# EAGLE library part STM32F756NGH6 (library circuit_tree)
IC
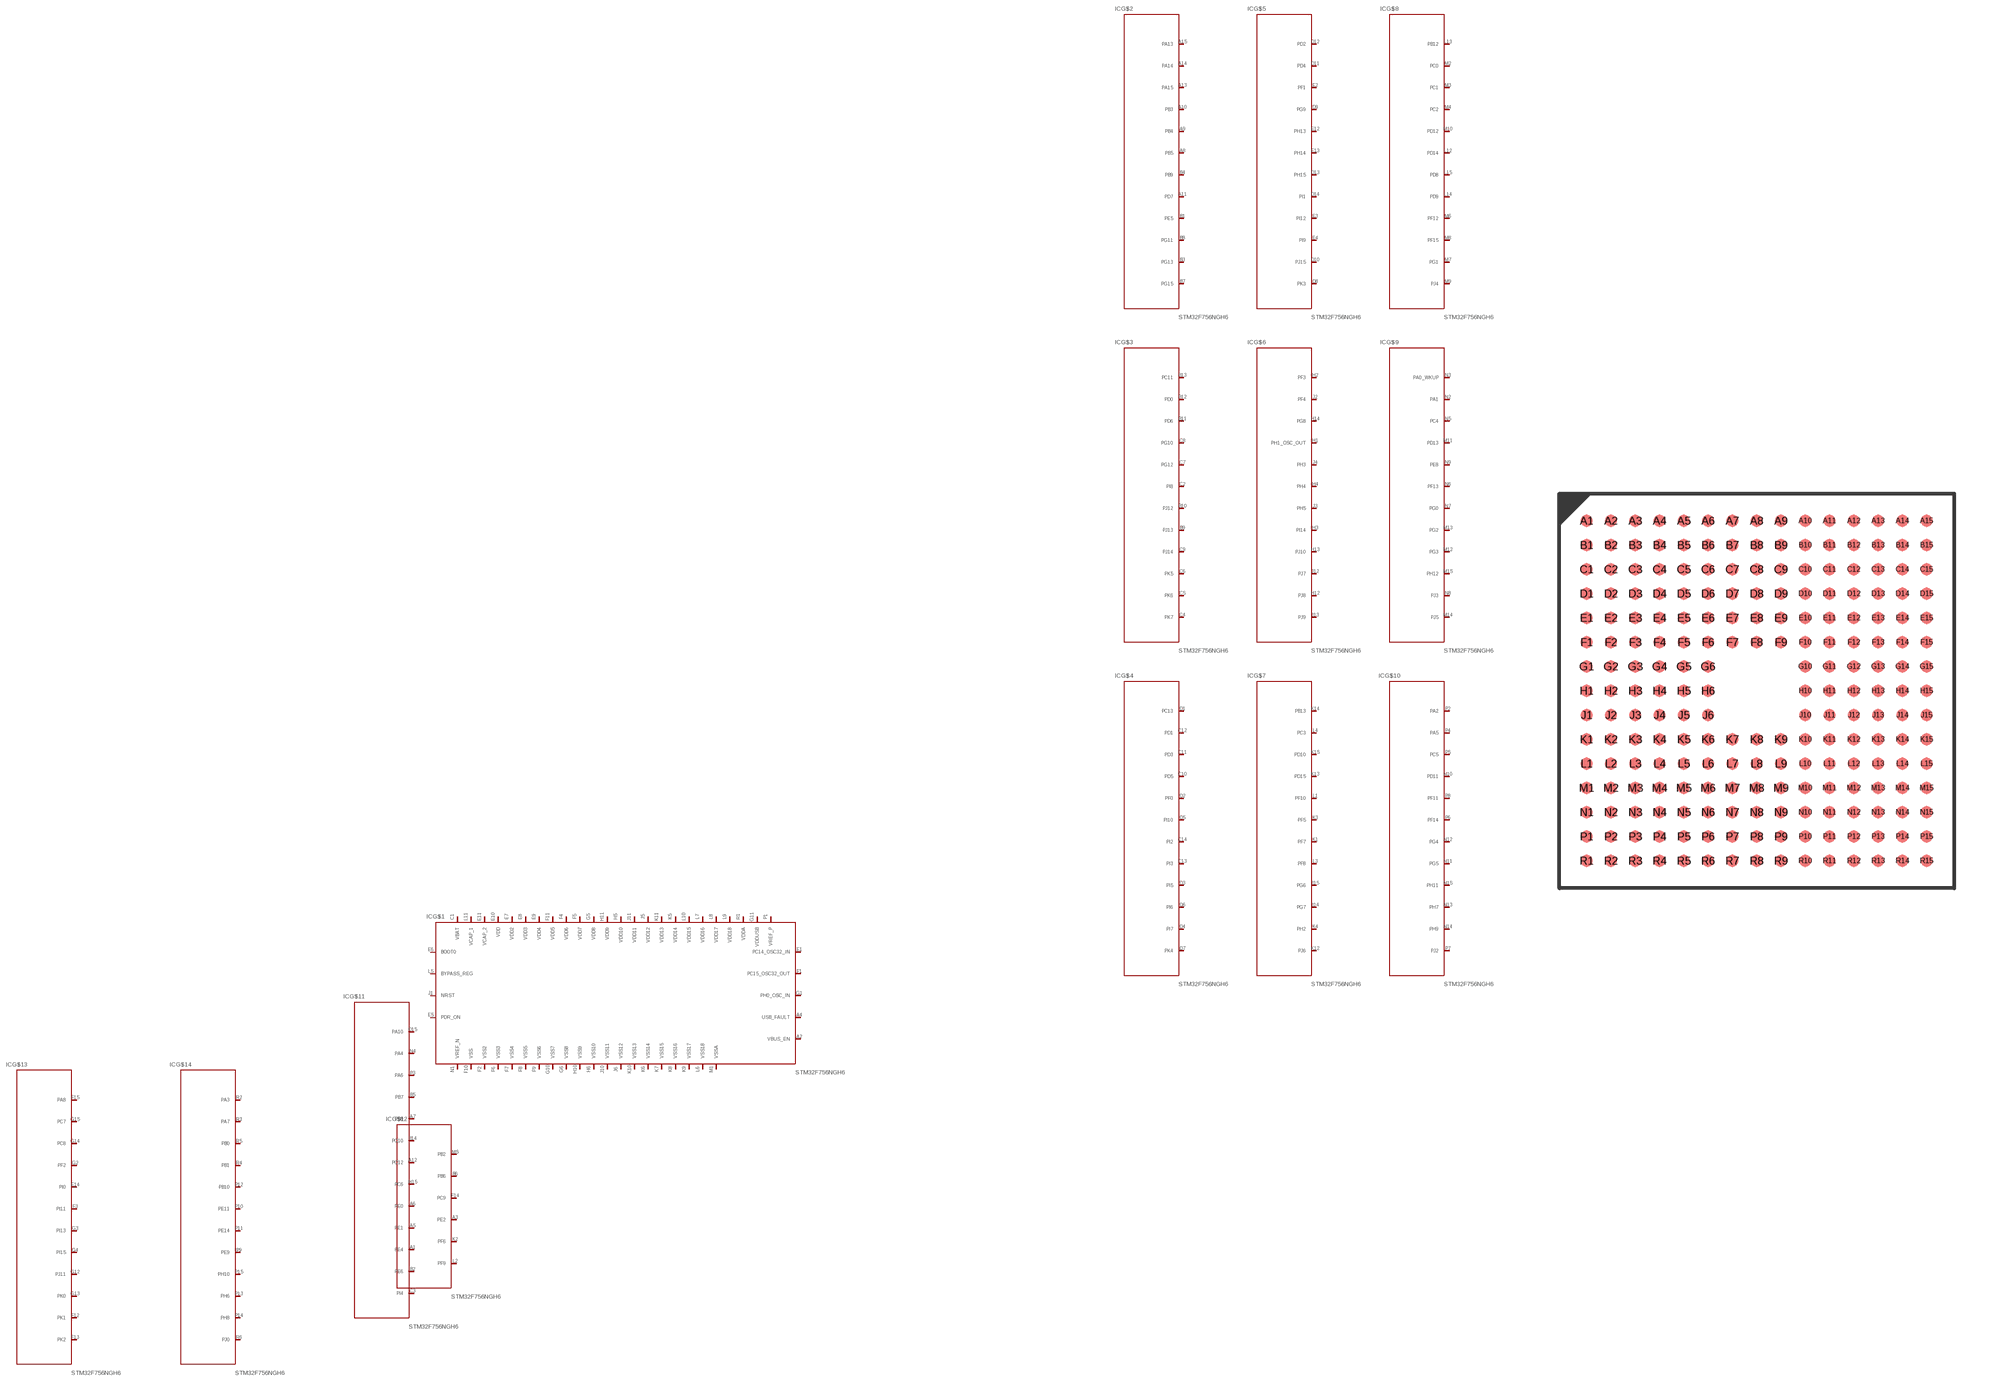
[diagram p8: symbol with the pads of TFBGA216; footprint TFBGA216]

Designator prefix IC; gates G$1=STM32F756NGH6 G$2=STM32F756NGH62 G$3=STM32F756NGH63 G$4=STM32F756NGH64 G$5=STM32F756NGH65 G$6=STM32F756NGH66 G$7=STM32F756NGH67 G$8=STM32F756NGH68 G$9=STM32F756NGH69 G$10=STM32F756NGH610 G$11=STM32F756NGH611 G$12=STM32F756NGH612 G$13=STM32F756NGH613 G$14=STM32F756NGH614

## STM32F756NGH6  [TFBGA216]
A1  G$11:PE4  pas
A2  G$1:VBUS_EN  pas
A3  G$12:PE2  pas
A4  G$1:USB_FAULT  pas
A5  G$11:PE1  pas
A6  G$11:PE0  pas
A7  G$11:PB8  pas
A8  G$2:PB5  pas
A9  G$2:PB4  pas
A10  G$2:PB3  pas
A11  G$2:PD7  pas
A12  G$11:PC12  pas
A13  G$2:PA15  pas
A14  G$2:PA14  pas
A15  G$2:PA13  pas
B1  G$2:PE5  pas
B2  G$11:PE6  pas
B3  G$2:PG13  pas
B4  G$2:PB9  pas
B5  G$11:PB7  pas
B6  G$12:PB6  pas
B7  G$2:PG15  pas
B8  G$2:PG11  pas
B9  G$3:PJ13  pas
B10  G$3:PJ12  pas
B11  G$3:PD6  pas
B12  G$3:PD0  pas
B13  G$3:PC11  pas
B14  G$11:PC10  pas
C1  G$1:VBAT  pas
C2  G$3:PI8  pas
C3  G$11:PI4  pas
C4  G$3:PK7  pas
C5  G$3:PK6  pas
C6  G$3:PK5  pas
C7  G$3:PG12  pas
C8  G$3:PG10  pas
C9  G$3:PJ14  pas
C10  G$4:PD5  pas
C11  G$4:PD3  pas
C12  G$4:PD1  pas
C13  G$4:PI3  pas
C14  G$4:PI2  pas
D1  G$4:PC13  pas
D2  G$4:PF0  pas
D3  G$4:PI5  pas
D4  G$4:PI7  pas
D5  G$4:PI10  pas
D6  G$4:PI6  pas
D7  G$4:PK4  pas
D8  G$5:PK3  pas
D9  G$5:PG9  pas
D10  G$5:PJ15  pas
D11  G$5:PD4  pas
D12  G$5:PD2  pas
D13  G$5:PH15  pas
D14  G$5:PI1  pas
D15  G$11:PA10  pas
E1  G$1:PC14_OSC32_IN  pas
E2  G$5:PF1  pas
E3  G$5:PI12  pas
E4  G$5:PI9  pas
E5  G$1:PDR_ON  pas
E6  G$1:BOOT0  pas
E7  G$1:VDD2  pas
E8  G$1:VDD3  pas
E9  G$1:VDD4  pas
E10  G$1:VDD  pas
E11  G$1:VCAP_2  pas
E12  G$5:PH13  pas
E13  G$5:PH14  pas
E14  G$13:PI0  pas
F1  G$1:PC15_OSC32_OUT  pas
F2  G$1:VSS2  pas
F3  G$13:PI11  pas
F4  G$1:VDD6  pas
F5  G$1:VDD7  pas
F6  G$1:VSS3  pas
F7  G$1:VSS4  pas
F8  G$1:VSS5  pas
F9  G$1:VSS6  pas
F10  G$1:VSS  pas
F11  G$1:VDD5  pas
F12  G$13:PK1  pas
F13  G$13:PK2  pas
F14  G$12:PC9  pas
F15  G$13:PA8  pas
G1  G$1:PH0_OSC_IN  pas
G2  G$13:PF2  pas
G3  G$13:PI13  pas
G4  G$13:PI15  pas
G5  G$1:VDD8  pas
G6  G$1:VSS8  pas
G10  G$1:VSS7  pas
G11  G$1:VDDUSB  pas
G12  G$13:PJ11  pas
G13  G$13:PK0  pas
G14  G$13:PC8  pas
G15  G$13:PC7  pas
H1  G$6:PH1_OSC_OUT  pas
H2  G$6:PF3  pas
H3  G$6:PI14  pas
H4  G$6:PH4  pas
H5  G$1:VDD10  pas
H6  G$1:VSS10  pas
H10  G$1:VSS9  pas
H11  G$1:VDD9  pas
H12  G$6:PJ8  pas
H13  G$6:PJ10  pas
H14  G$6:PG8  pas
H15  G$11:PC6  pas
J1  G$1:NRST  pas
J2  G$6:PF4  pas
J3  G$6:PH5  pas
J4  G$6:PH3  pas
J5  G$1:VDD12  pas
J6  G$1:VSS12  pas
J10  G$1:VSS11  pas
J11  G$1:VDD11  pas
J12  G$6:PJ7  pas
J13  G$6:PJ9  pas
J14  G$7:PG7  pas
J15  G$7:PG6  pas
K1  G$7:PF7  pas
K2  G$12:PF6  pas
K3  G$7:PF5  pas
K4  G$7:PH2  pas
K5  G$1:VDD14  pas
K6  G$1:VSS14  pas
K7  G$1:VSS15  pas
K8  G$1:VSS16  pas
K9  G$1:VSS17  pas
K10  G$1:VSS13  pas
K11  G$1:VDD13  pas
K12  G$7:PJ6  pas
K13  G$7:PD15  pas
K14  G$7:PB13  pas
K15  G$7:PD10  pas
L1  G$7:PF10  pas
L2  G$12:PF9  pas
L3  G$7:PF8  pas
L4  G$7:PC3  pas
L5  G$1:BYPASS_REG  pas
L6  G$1:VSS18  pas
L7  G$1:VDD16  pas
L8  G$1:VDD17  pas
L9  G$1:VDD18  pas
L10  G$1:VDD15  pas
L11  G$1:VCAP_1  pas
L12  G$8:PD14  pas
L13  G$8:PB12  pas
L14  G$8:PD9  pas
L15  G$8:PD8  pas
M1  G$1:VSSA  pas
M2  G$8:PC0  pas
M3  G$8:PC1  pas
M4  G$8:PC2  pas
M5  G$12:PB2  pas
M6  G$8:PF12  pas
M7  G$8:PG1  pas
M8  G$8:PF15  pas
M9  G$8:PJ4  pas
M10  G$8:PD12  pas
M11  G$9:PD13  pas
M12  G$9:PG3  pas
M13  G$9:PG2  pas
M14  G$9:PJ5  pas
M15  G$9:PH12  pas
N1  G$1:VREF_N  pas
N2  G$9:PA1  pas
N3  G$9:PA0_WKUP  pas
N4  G$11:PA4  pas
N5  G$9:PC4  pas
N6  G$9:PF13  pas
N7  G$9:PG0  pas
N8  G$9:PJ3  pas
N9  G$9:PE8  pas
N10  G$10:PD11  pas
N11  G$10:PG5  pas
N12  G$10:PG4  pas
N13  G$10:PH7  pas
N14  G$10:PH9  pas
N15  G$10:PH11  pas
P1  G$1:VREF_P  pas
P2  G$10:PA2  pas
P3  G$11:PA6  pas
P4  G$10:PA5  pas
P5  G$10:PC5  pas
P6  G$10:PF14  pas
P7  G$10:PJ2  pas
P8  G$10:PF11  pas
P9  G$14:PE9  pas
P10  G$14:PE11  pas
P11  G$14:PE14  pas
P12  G$14:PB10  pas
P13  G$14:PH6  pas
P14  G$14:PH8  pas
P15  G$14:PH10  pas
R1  G$1:VDDA  pas
R2  G$14:PA3  pas
R3  G$14:PA7  pas
R4  G$14:PB1  pas
R5  G$14:PB0  pas
R6  G$14:PJ0  pas

## Footprint TFBGA216 (pad centres in mm)
TFBGA216 13 x 13 mm, 15 x 15-pin thin fine 0.8 mm pitch ball grid array package
smd 0.4 x 0.4: A1 -5.6,5.6; A2 -4.8,5.6; A3 -4,5.6; A4 -3.2,5.6; A5 -2.4,5.6; A6 -1.6,5.6; A7 -0.8,5.6; A8 0,5.6; A9 0.8,5.6; A10 1.6,5.6; A11 2.4,5.6; A12 3.2,5.6; A13 4,5.6; A14 4.8,5.6; A15 5.6,5.6; B1 -5.6,4.8; B2 -4.8,4.8; B3 -4,4.8; B4 -3.2,4.8; B5 -2.4,4.8; B6 -1.6,4.8; B7 -0.8,4.8; B8 0,4.8; B9 0.8,4.8; B10 1.6,4.8; B11 2.4,4.8; B12 3.2,4.8; B13 4,4.8; B14 4.8,4.8; B15 5.6,4.8; C1 -5.6,4; C2 -4.8,4; C3 -4,4; C4 -3.2,4; C5 -2.4,4; C6 -1.6,4; C7 -0.8,4; C8 0,4; C9 0.8,4; C10 1.6,4; C11 2.4,4; C12 3.2,4; C13 4,4; C14 4.8,4; C15 5.6,4; D1 -5.6,3.2; D2 -4.8,3.2; D3 -4,3.2; D4 -3.2,3.2; D5 -2.4,3.2; D6 -1.6,3.2; D7 -0.8,3.2; D8 0,3.2; D9 0.8,3.2; D10 1.6,3.2; D11 2.4,3.2; D12 3.2,3.2; D13 4,3.2; D14 4.8,3.2; D15 5.6,3.2; E1 -5.6,2.4; E2 -4.8,2.4; E3 -4,2.4; E4 -3.2,2.4; E5 -2.4,2.4; E6 -1.6,2.4; E7 -0.8,2.4; E8 0,2.4; E9 0.8,2.4; E10 1.6,2.4; E11 2.4,2.4; E12 3.2,2.4; E13 4,2.4; E14 4.8,2.4; E15 5.6,2.4; F1 -5.6,1.6; F2 -4.8,1.6; F3 -4,1.6; F4 -3.2,1.6; F5 -2.4,1.6; F6 -1.6,1.6; F7 -0.8,1.6; F8 0,1.6; F9 0.8,1.6; F10 1.6,1.6; F11 2.4,1.6; F12 3.2,1.6; F13 4,1.6; F14 4.8,1.6; F15 5.6,1.6; G1 -5.6,0.8; G2 -4.8,0.8; G3 -4,0.8; G4 -3.2,0.8; G5 -2.4,0.8; G6 -1.6,0.8; G10 1.6,0.8; G11 2.4,0.8; G12 3.2,0.8; G13 4,0.8; G14 4.8,0.8; G15 5.6,0.8; H1 -5.6,0; H2 -4.8,0; H3 -4,0; H4 -3.2,0; H5 -2.4,0; H6 -1.6,0; H10 1.6,0; H11 2.4,0; H12 3.2,0; H13 4,0; H14 4.8,0; H15 5.6,0; J1 -5.6,-0.8; J2 -4.8,-0.8; J3 -4,-0.8; J4 -3.2,-0.8; J5 -2.4,-0.8; J6 -1.6,-0.8; J10 1.6,-0.8; J11 2.4,-0.8; J12 3.2,-0.8; J13 4,-0.8; J14 4.8,-0.8; J15 5.6,-0.8; K1 -5.6,-1.6; K2 -4.8,-1.6; K3 -4,-1.6; K4 -3.2,-1.6; K5 -2.4,-1.6; K6 -1.6,-1.6; K7 -0.8,-1.6; K8 0,-1.6; K9 0.8,-1.6; K10 1.6,-1.6; K11 2.4,-1.6; K12 3.2,-1.6; K13 4,-1.6; K14 4.8,-1.6; K15 5.6,-1.6; L1 -5.6,-2.4; L2 -4.8,-2.4; L3 -4,-2.4; L4 -3.2,-2.4; L5 -2.4,-2.4; L6 -1.6,-2.4; L7 -0.8,-2.4; L8 0,-2.4; L9 0.8,-2.4; L10 1.6,-2.4; L11 2.4,-2.4; L12 3.2,-2.4; L13 4,-2.4; L14 4.8,-2.4; L15 5.6,-2.4; M1 -5.6,-3.2; M2 -4.8,-3.2; M3 -4,-3.2; M4 -3.2,-3.2; M5 -2.4,-3.2; M6 -1.6,-3.2; M7 -0.8,-3.2; M8 0,-3.2; M9 0.8,-3.2; M10 1.6,-3.2; M11 2.4,-3.2; M12 3.2,-3.2; M13 4,-3.2; M14 4.8,-3.2; M15 5.6,-3.2; N1 -5.6,-4; N2 -4.8,-4; N3 -4,-4; N4 -3.2,-4; N5 -2.4,-4; N6 -1.6,-4; N7 -0.8,-4; N8 0,-4; N9 0.8,-4; N10 1.6,-4; N11 2.4,-4; N12 3.2,-4; N13 4,-4; N14 4.8,-4; N15 5.6,-4; P1 -5.6,-4.8; P2 -4.8,-4.8; P3 -4,-4.8; P4 -3.2,-4.8; P5 -2.4,-4.8; P6 -1.6,-4.8; P7 -0.8,-4.8; P8 0,-4.8; P9 0.8,-4.8; P10 1.6,-4.8; P11 2.4,-4.8; P12 3.2,-4.8; P13 4,-4.8; P14 4.8,-4.8; P15 5.6,-4.8; R1 -5.6,-5.6; R2 -4.8,-5.6; R3 -4,-5.6; R4 -3.2,-5.6; R5 -2.4,-5.6; R6 -1.6,-5.6; R7 -0.8,-5.6; R8 0,-5.6; R9 0.8,-5.6; R10 1.6,-5.6; R11 2.4,-5.6; R12 3.2,-5.6; R13 4,-5.6; R14 4.8,-5.6; R15 5.6,-5.6